# Altium schematic symbol library AP7347DQ-33W5-7.SchLib: 2 symbols
Pins are listed as number, name and electrical type; pins without a type are passive.

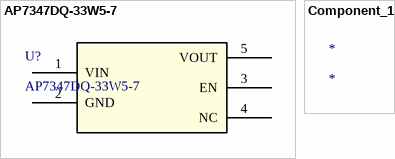
[diagram p0: symbols AP7347DQ-33W5-7 to Component_1]

## AP7347DQ-33W5-7
designator U?
No Description Available; Mfr_Name: Diodes Inc; Type: DEV; Copyright: Copyright (C) 2024 Ultra Librarian. All rights reserved.; Manufacturer_Part_Number: AP7347DQ-33W5-7; RefDes: RefDes
footprint SOT25-A1_DIO
pins: 1 VIN (power), 2 GND (power), 3 EN, 4 NC, 5 VOUT

## Component_1
designator *